# EAGLE library part 10POL_GERADE_M (library Honda2-0)
Honda Steckverbinder 10Pol gerade m FKP xM
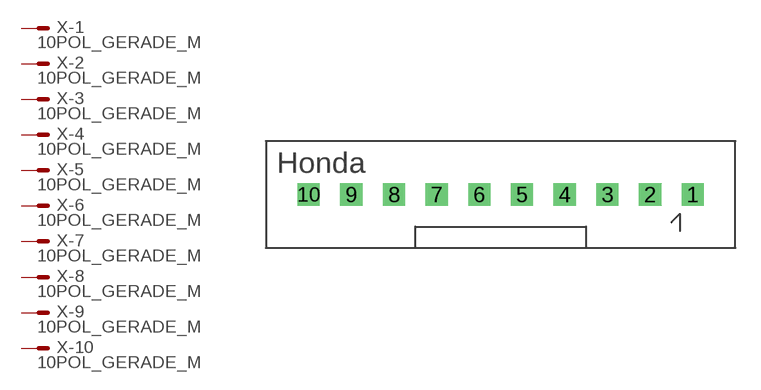
[diagram p3: symbol with the pads of 10POL_GERADE; footprint 10POL_GERADE]

Designator prefix X; gates -1=M -2=M -3=M -4=M -5=M -6=M -7=M -8=M -9=M -10=M

## 10POL_GERADE_M'  [10POL_GERADE]
1  -1:S  pas
2  -2:S  pas
3  -3:S  pas
4  -4:S  pas
5  -5:S  pas
6  -6:S  pas
7  -7:S  pas
8  -8:S  pas
9  -9:S  pas
10  -10:S  pas

## Footprint 10POL_GERADE (pad centres in mm)
Honda Steckverbinder 10Pol gerade m FKP xM
drill 0.813 square: 1 25.4,2.54; 2 22.86,2.54; 3 20.32,2.54; 4 17.78,2.54; 5 15.24,2.54; 6 12.7,2.54; 7 10.16,2.54; 8 7.62,2.54; 9 5.08,2.54; 10 2.54,2.54